# EAGLE library part TPS62291 (library Particle-v2)
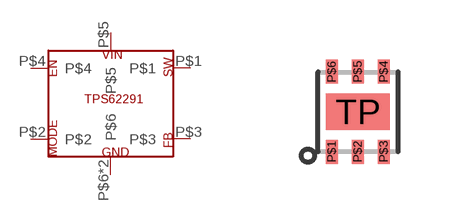
[diagram p24: symbol with the pads of S-PWSON-N6; footprint S-PWSON-N6]

Designator prefix -

## TPS62291DRV  [S-PWSON-N6]
P$1  P$1
P$2  P$2
P$3  P$3
P$4  P$4
P$5  P$5
P$6  P$6
TP  P$6

## Footprint S-PWSON-N6 (pad centres in mm)
smd 0.3 x 0.6: P$1 -0.65,-1; P$2 0,-1; P$3 0.65,-1; P$4 0.65,1; P$5 0,1; P$6 -0.65,1
smd 1.6 x 0.9: TP 0,0